# Altium schematic symbol library regulator.SchLib: 1 symbol
Pins are listed as number, name and electrical type; pins without a type are passive.

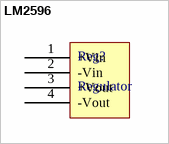
[diagram p0: symbol LM2596]

## LM2596
designator Reg?, comment Regulator
LM2596-step down regulator
footprint regulator (LM2596 step-down regulator)
pins: 1 +Vin, 2 -Vin, 3 +Vout, 4 -Vout